# Altium footprint library IR LED SFH480.PcbLib: 1 footprints
Each footprint in its own frame and in the unit in brackets; x right, y up, seen from the top. Pads: shape width x height; smd on the part's side, far side on the other; paste and mask are expansions set on the pad; w line width, h text height; cw(c..) or ccw(c..) is an arc to the next point about the centre after c.
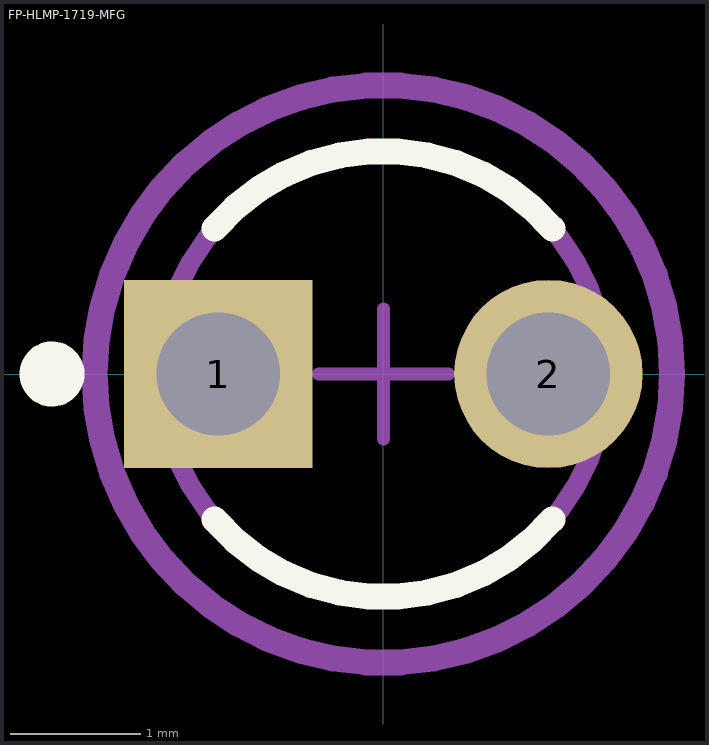
[diagram p0: the footprint, top view; thin cyan lines are the x and y axes]

## FP-HLMP-1719-MFG [mm]
pads (2):
  rect 1.45x1.45 hole 0.95 paste-2539.97 mask+0: 1(-1.27,0)
  round 1.45 hole 0.95 paste-2539.97 mask+0: 2(1.27,0)
Top Overlay:
  circle w0.25: c-2.55,0 r0.125
  lines w0.2: -1.3,-1.12 ccw(c0,-0.001) 1.3,-1.12 ; -1.3,1.12 cw(c0,0.001) 1.3,1.12
Top Assembly:
  text ".Designator" at 0,0.188 h1
Top 3D Body:
  circle w0.15: c0,0 r1.715
Top Courtyard:
  lines w0.2: -2.223,0 ccw(c0,0) 2.223,0 ccw(c0,0) -2.223,0
Top Component Center:
  lines w0.1: -0.5,0 0.5,0 ; 0,-0.5 0,0.5
3D body "Diode_Broadcom_HLMP-1719_eec.STEP": height 0.25, standoff 0, extent -2.223,-2.223 2.223,2.223